# Altium footprint library PMS5003_breakout.PcbLib: 1 footprints
Each footprint in its own frame and in the unit in brackets; x right, y up, seen from the top. Pads: shape width x height; smd on the part's side, far side on the other; paste and mask are expansions set on the pad; w line width, h text height; cw(c..) or ccw(c..) is an arc to the next point about the centre after c.
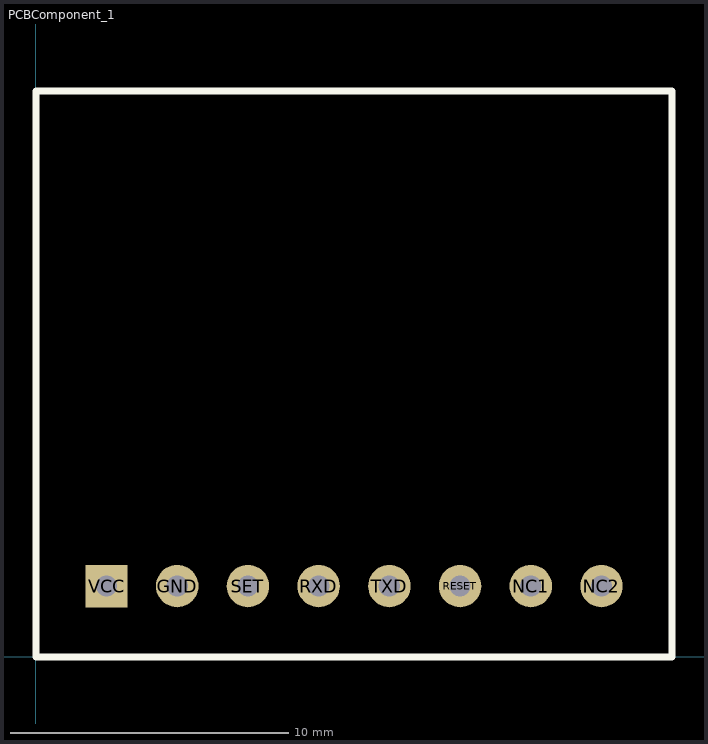
[diagram p0: the footprint, top view; thin cyan lines are the x and y axes]

## PCBComponent_1 [mil]
pads (8):
  round 60 hole 30: GND(200,100) NC1(700,100) NC2(800,100) RESET(600,100) RXD(400,100) SET(300,100) TXD(500,100)
  rect 60x60 hole 30: VCC(100,100)
Top Overlay:
  lines w10: 0,0 900,0 900,800 0,800 0,0